# EAGLE library part CD4051BE (library CD4051BE)
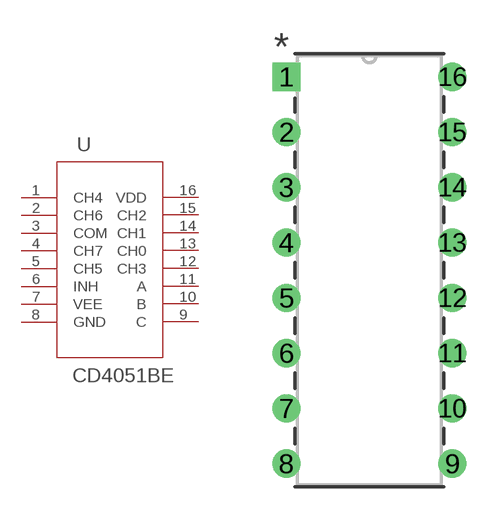
[diagram p0: symbol with the pads of N16; footprint N16]

Designator prefix U

## CD4051BE (COPYRIGHT: Copyright (C) 2024 Ultra Librarian. All rights reserved.; MANUFACTURER_PART_NUMBER: CD4051BE; MFR_NAME: Texas Instruments)  [N16]
1  CH4
2  CH6
3  COM
4  CH7
5  CH5
6  INH  pas
7  VEE  pwr
8  GND  pwr
9  C  pas
10  B  pas
11  A  pas
12  CH3
13  CH0
14  CH1
15  CH2
16  VDD  pwr

## Footprint N16 (pad centres in mm)
drill 0.787 pad 1.295 square: 1 0,0
drill 0.787 pad 1.295: 2 0,-2.54; 3 0,-5.08; 4 0,-7.62; 5 0,-10.16; 6 0,-12.7; 7 0,-15.24; 8 0,-17.78; 9 7.62,-17.78; 10 7.62,-15.24; 11 7.62,-12.7; 12 7.62,-10.16; 13 7.62,-7.62; 14 7.62,-5.08; 15 7.62,-2.54; 16 7.62,0